# Altium footprint library NEW.PcbLib: 69 footprints (part 3 of 5)
Each footprint in its own frame and in the unit in brackets; x right, y up, seen from the top. Pads: shape width x height; smd on the part's side, far side on the other; paste and mask are expansions set on the pad; w line width, h text height; cw(c..) or ccw(c..) is an arc to the next point about the centre after c.
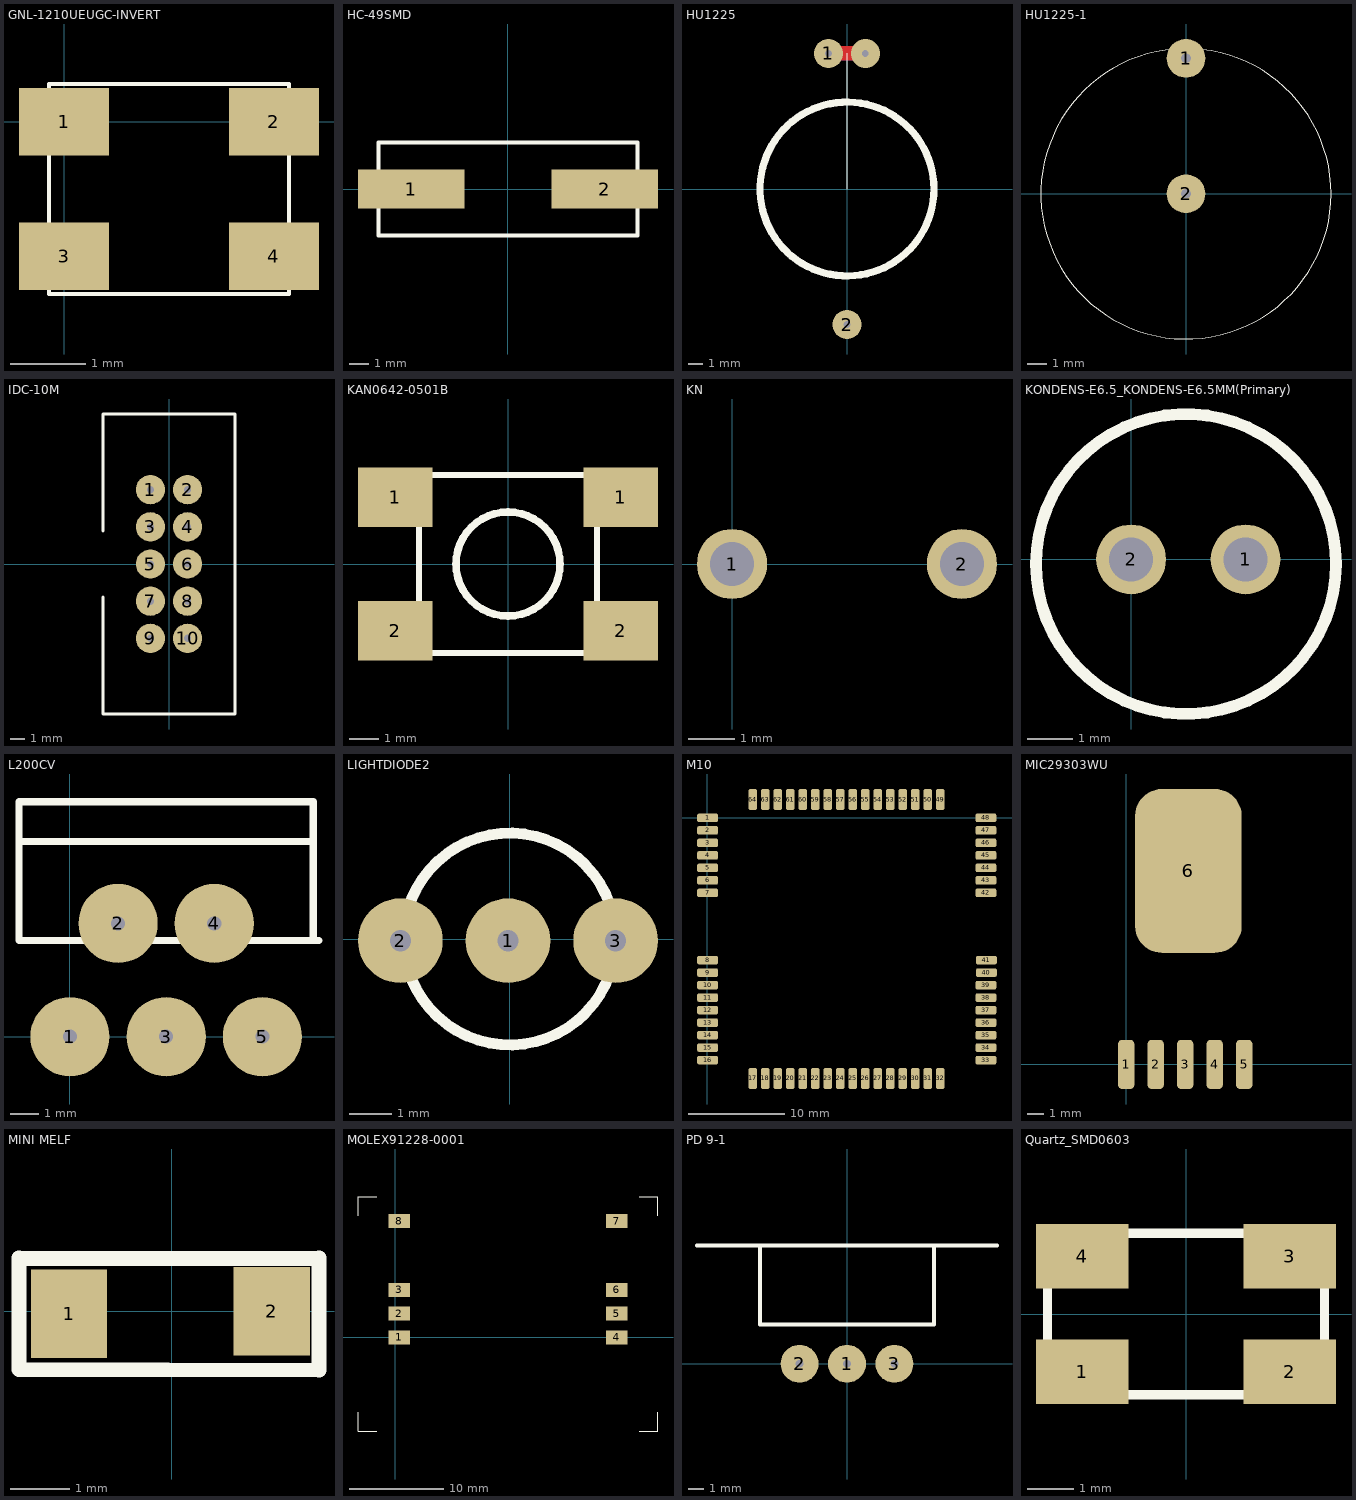
[diagram p2: the footprints below, top view; thin cyan lines are the x and y axes]

## GNL-1210UEUGC-INVERT [mm]
pads (4):
  rect 1.2x0.9 smd: 1(0,0) 2(2.8,0) 3(0,-1.8) 4(2.8,-1.8)
Top Overlay:
  lines w0.05: -0.2,-2.3 3,-2.3 3,0.5 -0.2,0.5 -0.2,-2.3

## HC-49SMD [mm]
height 4
pads (2):
  rect 5.5x2 smd: 1(-5,0) 2(5,0)
Top Overlay:
  lines w0.2: -6.7,-2.4 6.7,-2.4 6.7,2.4 -6.7,2.4 -6.7,-2.4
3D body: height 4, standoff 0, extent -6.699,-2.399 6.699,2.399
3D body: height 3, standoff 0, extent -6.699,-2.399 6.699,2.399

## HU1225 [mm]
pads (2):
  round 2 hole 0.5: 1(-1.28,9.35) 2(0,-9.35)
via 1.27,9.35 diameter 2 hole 0.457
Top Layer:
  lines w1: -0.53,9.35 0.52,9.35
Bottom Layer:
  lines w1: -0.58,9.35 0.52,9.35
Top Overlay:
  circle w0.5: c0,0 r6
  lines w0.05: 0,0 0,9.35

## HU1225-1 [mm]
pads (2):
  round 2 hole 0.5: 1(0,7) 2(0,0)
Top Overlay:
  circle w0.05: c0,0 r7.5

## IDC-10M [mm]
height 9
pads (10):
  round 2 hole 0.5 unplated: 1(-1.27,5.08) 2(1.27,5.08) 3(-1.27,2.54) 4(1.27,2.54) 5(-1.27,0) 6(1.27,0) 7(-1.27,-2.54) 8(1.27,-2.54) 9(-1.27,-5.08) 10(1.27,-5.08)
Top Overlay:
  lines w0.2: -4.5,-2.25 -4.5,-10.25 4.5,-10.25 4.5,10.25 -4.5,10.25 -4.5,2.25

## KAN0642-0501B [mm]
height 5
pads (4):
  rect 2.5x2 smd: 1(-3.8,2.25) 1(3.8,2.25) 2(-3.8,-2.25) 2(3.8,-2.25)
Top Overlay:
  circle w0.254: c0,0 r1.75
  lines w0.2: -3,-3 3,-3 3,3 -3,3 -3,-3

## KN [mil]
pads (2):
  round 60 hole 38: 1(0,0) 2(196.85,0)

## KONDENS-E6.5_KONDENS-E6.5MM(Primary) [mil]
pads (2):
  round 60 hole 38: 1(98.43,0) 2(0,0)
Top Overlay:
  circle w10: c47.24,-3.94 r128.96

## L200CV [mm]
pads (5):
  round 2.8 hole 0.5: 1(0,0) 2(1.7,4) 3(3.4,0) 4(5.1,4) 5(6.8,0)
Top Overlay:
  lines w0.254: -1.8,6.9 8.6,6.9 ; 8.6,3.4 8.6,8.3 -1.8,8.3 -1.8,3.4 8.8,3.4

## LIGHTDIODE2 [mm]
pads (3):
  round 2 hole 0.5: 1(-0.04,-0.04) 2(-2.58,-0.04) 3(2.5,-0.04)
Top Overlay:
  circle w0.254: c0,0 r2.5

## M10 [mm]
pads (64):
  rrect50% 2.2x0.9 smd: 1(0.05,0) 2(0.05,-1.3) 3(0.05,-2.6) 4(0.05,-3.9) 5(0.05,-5.2) 6(0.05,-6.5) 7(0.05,-7.8) 8(0.05,-14.8) 9(0.05,-16.1) 10(0.05,-17.4) 11(0.05,-18.7) 12(0.05,-20) 13(0.05,-21.3) 14(0.05,-22.6) 15(0.05,-23.9) 16(0.05,-25.2) 33(29,-25.2) 34(29,-23.9) 35(29,-22.6) 36(29,-21.3) 37(29,-20) 38(29,-18.7) 39(29,-17.4) 40(29.05,-16.1) 41(29.05,-14.8) 42(29,-7.8) 43(29,-6.5) 44(29,-5.2) 45(29,-3.9) 46(29,-2.6) 47(29,-1.3) 48(29,0)
  rrect50% 0.9x2.2 smd: 17(4.75,-27.1) 18(6.05,-27.1) 19(7.35,-27.1) 20(8.65,-27.1) 21(9.95,-27.1) 22(11.25,-27.1) 23(12.55,-27.1) 24(13.85,-27.1) 25(15.15,-27.1) 26(16.45,-27.1) 27(17.75,-27.1) 28(19.05,-27.1) 29(20.35,-27.1) 30(21.65,-27.1) 31(22.95,-27.1) 32(24.25,-27.1) 49(24.25,1.9) 50(22.95,1.9) 51(21.65,1.9) 52(20.35,1.9) 53(19.05,1.9) 54(17.75,1.9) 55(16.45,1.9) 56(15.15,1.9) 57(13.85,1.9) 58(12.55,1.9) 59(11.25,1.9) 60(9.95,1.9) 61(8.65,1.9) 62(7.35,1.9) 63(6.05,1.9) 64(4.75,1.9)

## MIC29303WU [mm]
pads (6):
  rrect50% 1x3 smd: 1(0,0) 2(1.8,0) 3(3.6,0) 4(5.4,0) 5(7.2,0)
  rrect50% 6.5x10 smd: 6(3.8,11.8)

## MINI MELF [mm]
pads (2):
  rect 1.3x1.5 smd: 1(-1.75,-0.04) 2(1.7,0)
Top Overlay:
  lines w0.25: -2.6,0.9 2.5,0.9 ; -2.6,0.91 -2.6,-0.99 2.5,-1 ; 2.5,-0.99 2.5,0.91

## MOLEX91228-0001 [mm]
pads (8):
  rect 2.3x1.5 smd: 1(0.38,0) 2(0.38,2.54) 3(0.38,5.08) 4(23.6,0) 5(23.6,2.54) 6(23.6,5.08) 7(23.6,12.4) 8(0.38,12.4)
Top Overlay:
  lines w0.1: -4,-8 -4,-10 -2,-10 ; -4,13 -4,15 -2,15 ; 26,-10 28,-10 28,-8 ; 26,15 28,15 28,13

## PD 9-1 [mm]
pads (3):
  round 2.4 hole 0.5: 1(0,0) 2(-3,0) 3(3,0)
Top Overlay:
  lines w0.254: -9.5,7.5 9.5,7.5 ; -5.5,7.5 -5.5,2.5 5.5,2.5 5.5,7.5

## Quartz_SMD0603 [mm]
height 1.1
pads (4):
  rect 2x1.4 smd: 1(-2.25,-1.25) 2(2.25,-1.25) 3(2.25,1.25) 4(-2.25,1.25)
Top Overlay:
  lines w0.2: -3,-1.75 -3,1.75 3,1.75 3,-1.75 -3,-1.75